# Altium schematic symbol library DIODE,SiC,650V,29A,SMD.Schlib: 1 symbol
Pins are listed as number, name and electrical type; pins without a type are passive.

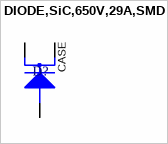
[diagram p0: symbol DIODE,SiC,650V,29A,SMD]

## DIODE,SiC,650V,29A,SMD
designator D?
pins: 1 K, 3 A, 4 K
text: CASE